# EAGLE library part 4-1825059-1 (library Switches)
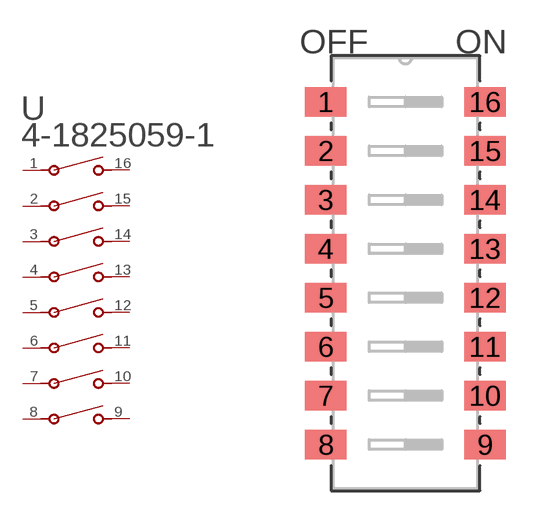
[diagram p4: symbol with the pads of SWSO16_325X138P100; footprint SWSO16_325X138P100]

Designator prefix U

## 4-1825059-1 (BUILT_BY: EMA_UL_Team; CATEGORY: DIP & SIP Switches; COPYRIGHT: Copyright (C) 2016 Accelerated Designs. All rights reserved; DESCRIPTION: ADF08ST04=DIP SWT,FLUSH,SMT-GW; MANUFACTURER_PART_NUMBER: 4-1825059-1; PART_STATUS: active; SERIES: Alcoswitch DIP,Alcoswitch DIP ADF; VENDOR: TE Connectivity)  [SWSO16_325X138P100]
1  1  pas
2  2  pas
3  3  pas
4  4  pas
5  5  pas
6  6  pas
7  7  pas
8  8  pas
9  9  pas
10  10  pas
11  11  pas
12  12  pas
13  13  pas
14  14  pas
15  15  pas
16  16  pas

## Footprint SWSO16_325X138P100 (pad centres in mm)
smd 2.159 x 1.524: 1 -4.128,8.89; 2 -4.128,6.35; 3 -4.128,3.81; 4 -4.128,1.27; 5 -4.128,-1.27; 6 -4.128,-3.81; 7 -4.128,-6.35; 8 -4.128,-8.89; 9 4.128,-8.89; 10 4.128,-6.35; 11 4.128,-3.81; 12 4.128,-1.27; 13 4.128,1.27; 14 4.128,3.81; 15 4.128,6.35; 16 4.128,8.89